# Altium footprint library EXL1V0505-5R6-R.PcbLib: 1 footprints
Each footprint in its own frame and in the unit in brackets; x right, y up, seen from the top. Pads: shape width x height; smd on the part's side, far side on the other; paste and mask are expansions set on the pad; w line width, h text height; cw(c..) or ccw(c..) is an arc to the next point about the centre after c.
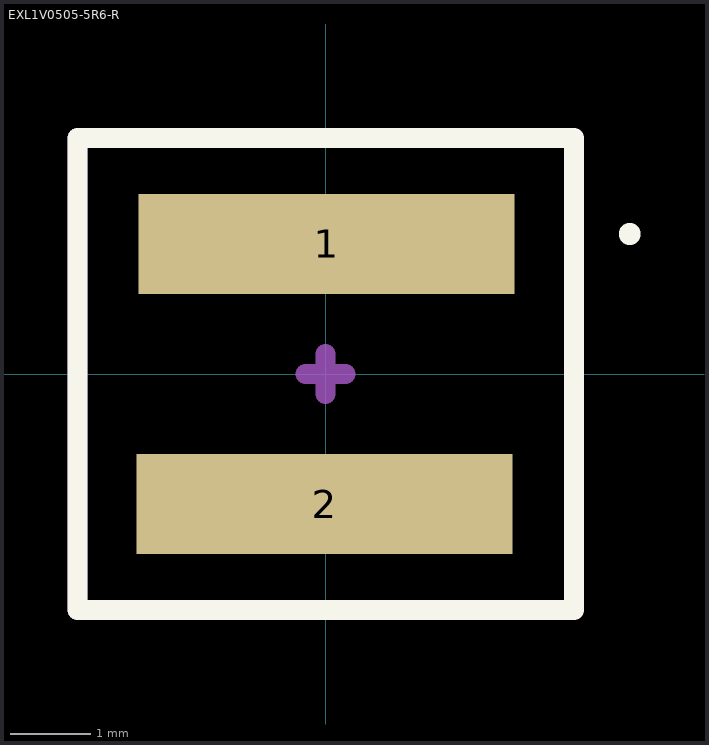
[diagram p0: the footprint, top view; thin cyan lines are the x and y axes]

## EXL1V0505-5R6-R [mm]
pads (2):
  rect 4.7x1.25 smd mask+0.051: 1(0.013,1.625) 2(-0.012,-1.625)
Top Overlay:
  lines w0.25: -3.1,-2.95 -3.1,-2.1 -3.1,2.95 -2.1,2.95 3.1,2.95 3.1,-2.175 3.1,-2.95 2.25,-2.95 -3.1,-2.95
  lines w0.254: 3.809,1.75 cw(c3.799,1.75) 3.808,1.753
Mechanical 13:
  lines w0.25: -3.1,-2.95 3.1,-2.95 3.1,2.95 -3.1,2.95 -3.1,-2.95
Mechanical 15:
  lines w0.25: -0.25,0 0,0 ; 0,-0.25 0,0 ; 0,0.25 0,0 ; 0.25,0 0,0
3D body: height 5, standoff 0, extent -3.1,-2.95 3.1,2.95